# EAGLE library part STM32L432KCU6 (library STM32L432KCU6)
None Check prices <https://pricing.snapeda.com/parts/STM32L432KCU6/STMicroelectronics/view-part?ref=eda>
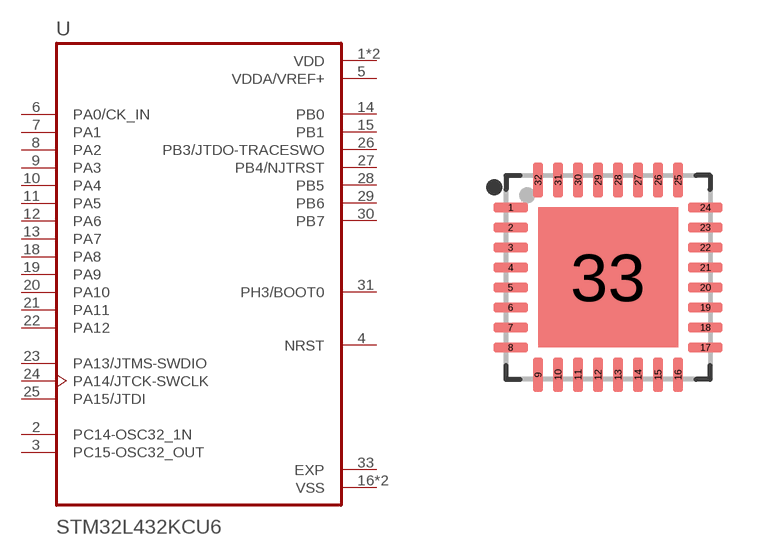
[diagram p0: symbol with the pads of QFN50P500X500X60-33N; footprint QFN50P500X500X60-33N]

Designator prefix U

## STM32L432KCU6 (Availability: In Stock; Description: ARM® Cortex®-M4 STM32L4 Microcontroller IC 32-Bit 80MHz 256KB (256K x 8) FLASH 32-UFQFPN (5x5); MF: STMicroelectronics; MP: STM32L432KCU6; Package: UFQFN-32 STMicroelectronics; Price: None)  [QFN50P500X500X60-33N]
1  VDD  pwr
2  PC14-OSC32_1N
3  PC15-OSC32_OUT
4  NRST
5  VDDA/VREF+  pwr
6  PA0/CK_IN
7  PA1
8  PA2
9  PA3
10  PA4
11  PA5
12  PA6
13  PA7
14  PB0
15  PB1
16  VSS  pwr
17  VDD  pwr
18  PA8
19  PA9
20  PA10
21  PA11
22  PA12
23  PA13/JTMS-SWDIO
24  PA14/JTCK-SWCLK
25  PA15/JTDI
26  PB3/JTDO-TRACESWO
27  PB4/NJTRST
28  PB5
29  PB6
30  PB7
31  PH3/BOOT0
32  VSS  pwr
33  EXP  pwr

## Footprint QFN50P500X500X60-33N (pad centres in mm)
smd 0.86 x 0.25: 1 -2.435,1.75; 2 -2.435,1.25; 3 -2.435,0.75; 4 -2.435,0.25; 5 -2.435,-0.25; 6 -2.435,-0.75; 7 -2.435,-1.25; 8 -2.435,-1.75; 17 2.435,-1.75; 18 2.435,-1.25; 19 2.435,-0.75; 20 2.435,-0.25; 21 2.435,0.25; 22 2.435,0.75; 23 2.435,1.25; 24 2.435,1.75
smd 0.25 x 0.86: 9 -1.75,-2.435; 10 -1.25,-2.435; 11 -0.75,-2.435; 12 -0.25,-2.435; 13 0.25,-2.435; 14 0.75,-2.435; 15 1.25,-2.435; 16 1.75,-2.435; 25 1.75,2.435; 26 1.25,2.435; 27 0.75,2.435; 28 0.25,2.435; 29 -0.25,2.435; 30 -0.75,2.435; 31 -1.25,2.435; 32 -1.75,2.435
smd 3.5 x 3.5: 33 0,0